# Altium footprint library RLC.PcbLib: 151 footprints (part 1 of 10)
Each footprint in its own frame and in the unit in brackets; x right, y up, seen from the top. Pads: shape width x height; smd on the part's side, far side on the other; paste and mask are expansions set on the pad; w line width, h text height; cw(c..) or ccw(c..) is an arc to the next point about the centre after c.
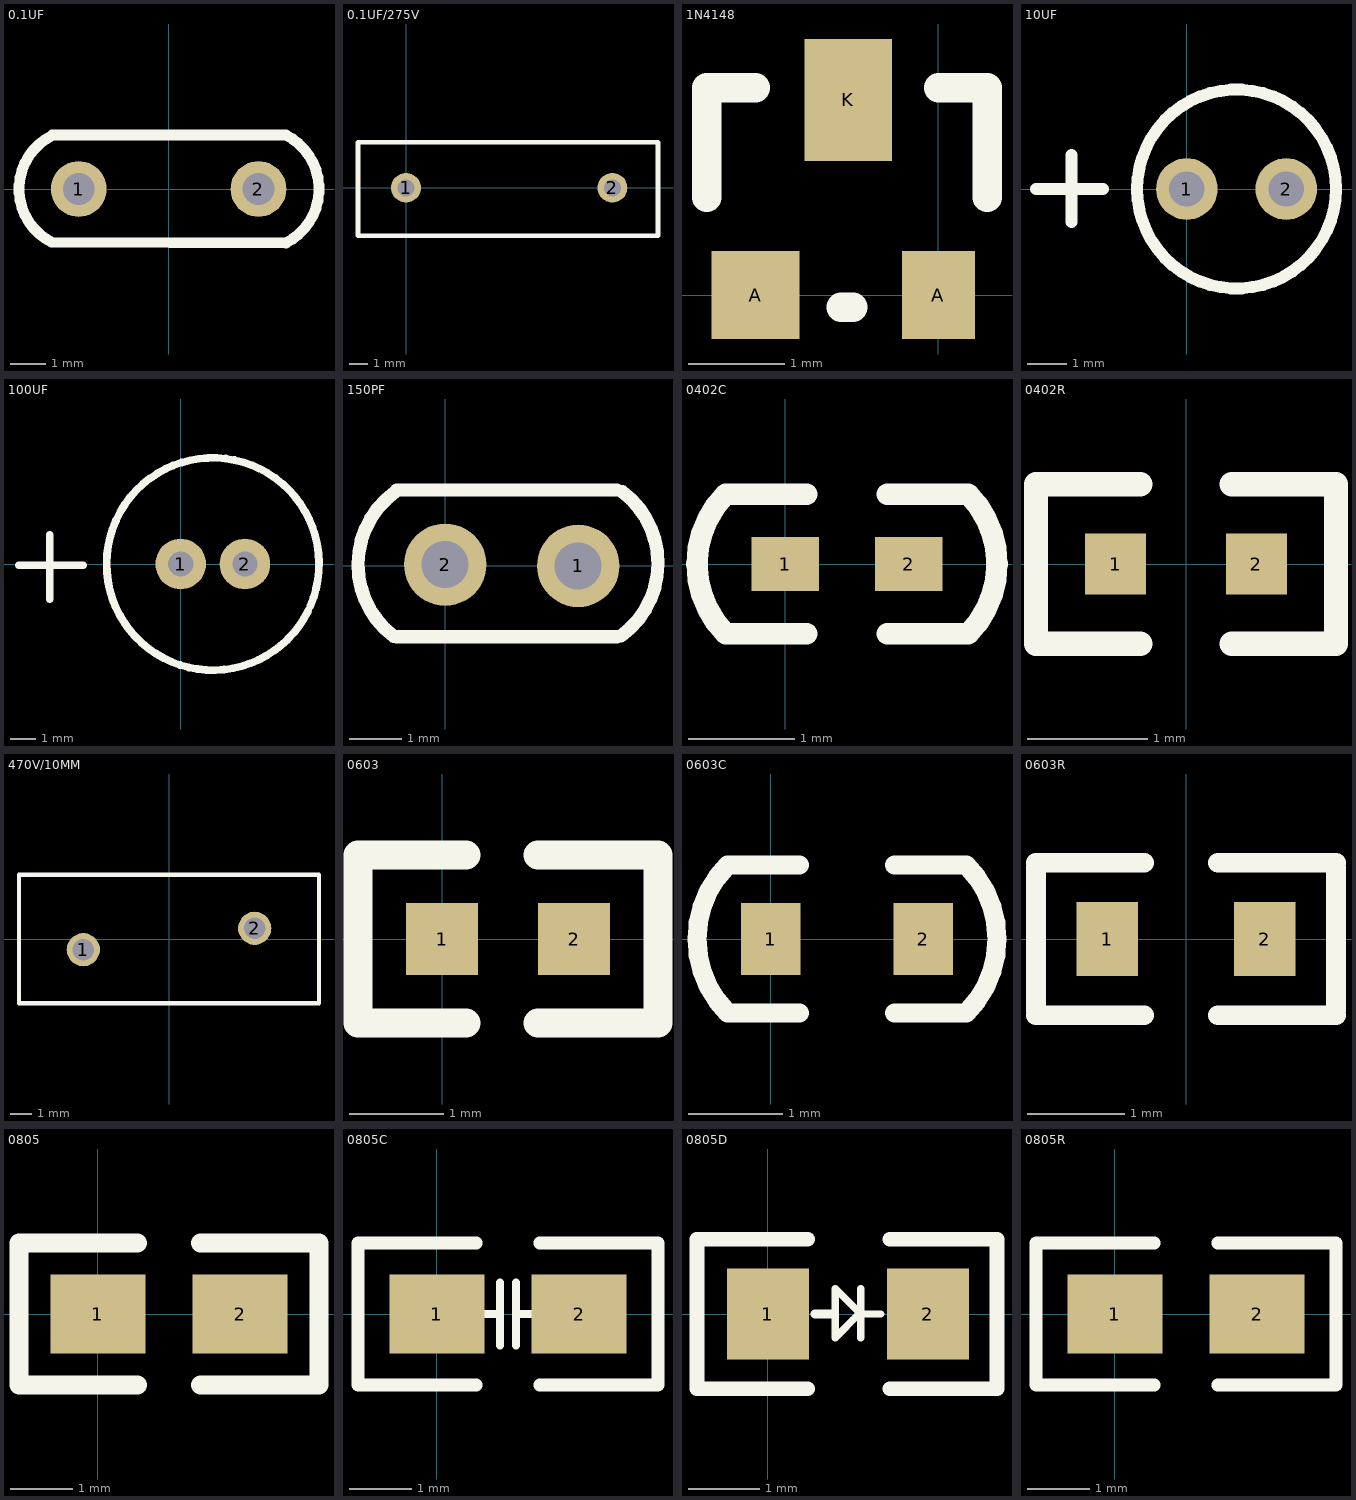
[diagram p0: the footprints below, top view; thin cyan lines are the x and y axes]

## 0.1UF [mil]
pads (2):
  round 62 hole 35.43: 1(-100,0) 2(100,0)
Top Overlay:
  lines w12: -130.04,-59.28 cw(c-100,0) -130.04,59.28 ; -130.01,-59.28 130.54,-59.99 ccw(c100,0) 130.54,59.99 -129.42,60.22

## 0.1UF/275V [mil]
pads (2):
  round 62 hole 35.43: 1(0,0) 2(430,0)
Top Overlay:
  lines w10: -100,-100 -100,95 525,95 525,-100 -100,-100

## 1N4148 [mil]
pads (3):
  rect 36x36 smd: A(-75,0)
  rect 30x36 smd: A(0,0)
  rect 36x50 smd: K(-37,80)
Top Overlay:
  lines w12: -95,40 -95,85 -75,85 ; -40,-5 -35,-5 ; 0,85 20,85 20,40

## 10UF [mil]
pads (2):
  round 62 hole 35.43: 1(0,0) 2(100,0)
Top Overlay:
  circle w12: c50,0 r100
  lines w12: -151.69,0 -84.17,0 ; -115.87,-33.27 -115.87,34.25

## 100UF [mm]
pads (2):
  round 2 hole 1: 1(0,0) 2(2.54,0)
Top Overlay:
  lines w0.305: -6.395,-0.05 -3.855,-0.05 ; -5.175,-1.395 -5.175,1.145 ; 5.049,-1.834 cw(c1.27,0) 5.129,-1.658

## 150PF [mil]
pads (2):
  round 62 hole 35.43: 1(100,0) 2(0,1)
Top Overlay:
  lines w10: -38.7,-52.9 cw(c1.97,1) -37.75,55.6 ; -36.42,-53.15 128.94,-53.15 ; -36.42,57.09 128.94,57.09 ; 132.24,-52.64 ccw(c92.52,1.95) 133.18,55.85

## 0402C [mil]
pads (2):
  rect 25x20 smd: 1(0,0) 2(46,0)
Top Overlay:
  lines w8: 8,-26 -22,-26 cw(c4,0) -22,26 8,26 ; 38,-26 68,-26 ccw(c42,0) 68,26 38,26

## 0402R [mil]
pads (2):
  rect 20x20 smd: 1(-23,0) 2(23,0)
Top Overlay:
  lines w8: -15,-26 -49,-26 -49,26 -15,26 ; 15,-26 49,-26 49,26 15,26

## 470V/10MM [mm]
pads (2):
  round 1.55 hole 1: 1(-4,-0.5) 2(4,0.5)
Top Overlay:
  lines w0.203: -7,-3 7,-3 7,3 -7,3 -7,-3

## 0603 [mil]
pads (2):
  rect 30x30 smd: 1(0,0) 2(55,0)
Top Overlay:
  lines w12: 10,-35 -35,-35 -35,35 10,35 ; 40,-35 90,-35 90,35 40,35

## 0603C [mil]
pads (2):
  rect 25x30 smd: 1(0,0) 2(64,0)
Top Overlay:
  lines w8: 12,-31 -18,-31 cw(c13,0) -18,31 12,31 ; 52,-31 82,-31 ccw(c51,0) 82,31 52,31

## 0603R [mil]
pads (2):
  rect 25x30 smd: 1(-32,0) 2(32,0)
Top Overlay:
  lines w8: -61,-31 -17,-31 ; -61,-29 -61,29 ; -61,31 -17,31 ; 13,-31 61,-31 ; 13,31 61,31 ; 61,-29 61,29

## 0805 [mil]
pads (2):
  rect 60x50 smd: 1(0,0) 2(90,0)
Top Overlay:
  lines w12: 25,-45 -50,-45 -50,45 25,45 ; 65,-45 140,-45 140,45 65,45

## 0805C [mil]
pads (2):
  rect 60x50 smd: 1(0,0) 2(90,0)
Top Overlay:
  lines w5: 30,0 40,0 ; 40,-20 40,20 ; 50,-20 50,20 ; 50,0 60,0
  lines w8: 25,-45 -50,-45 -50,45 25,45 ; 65,-45 140,-45 140,45 65,45

## 0805D [mil]
pads (2):
  rect 45x50 smd: 1(0,0) 2(88,0)
Top Overlay:
  lines w4: 51,-13 51,14 ; 62,0 51,0 ; 51,0 37,14 37,-13 50,0 51,0
  lines w5: 26,0 36,0
  lines w8: 22,-41 -39,-41 -39,41 22,41 ; 67,-41 126,-41 126,41 67,41

## 0805R [mil]
pads (2):
  rect 60x50 smd: 1(0,0) 2(90,0)
Top Overlay:
  lines w8: 25,-45 -50,-45 -50,45 25,45 ; 65,-45 140,-45 140,45 65,45